# Altium integrated library AMCC PowerPC 405.IntLib: 46 symbols (part 3 of 12)
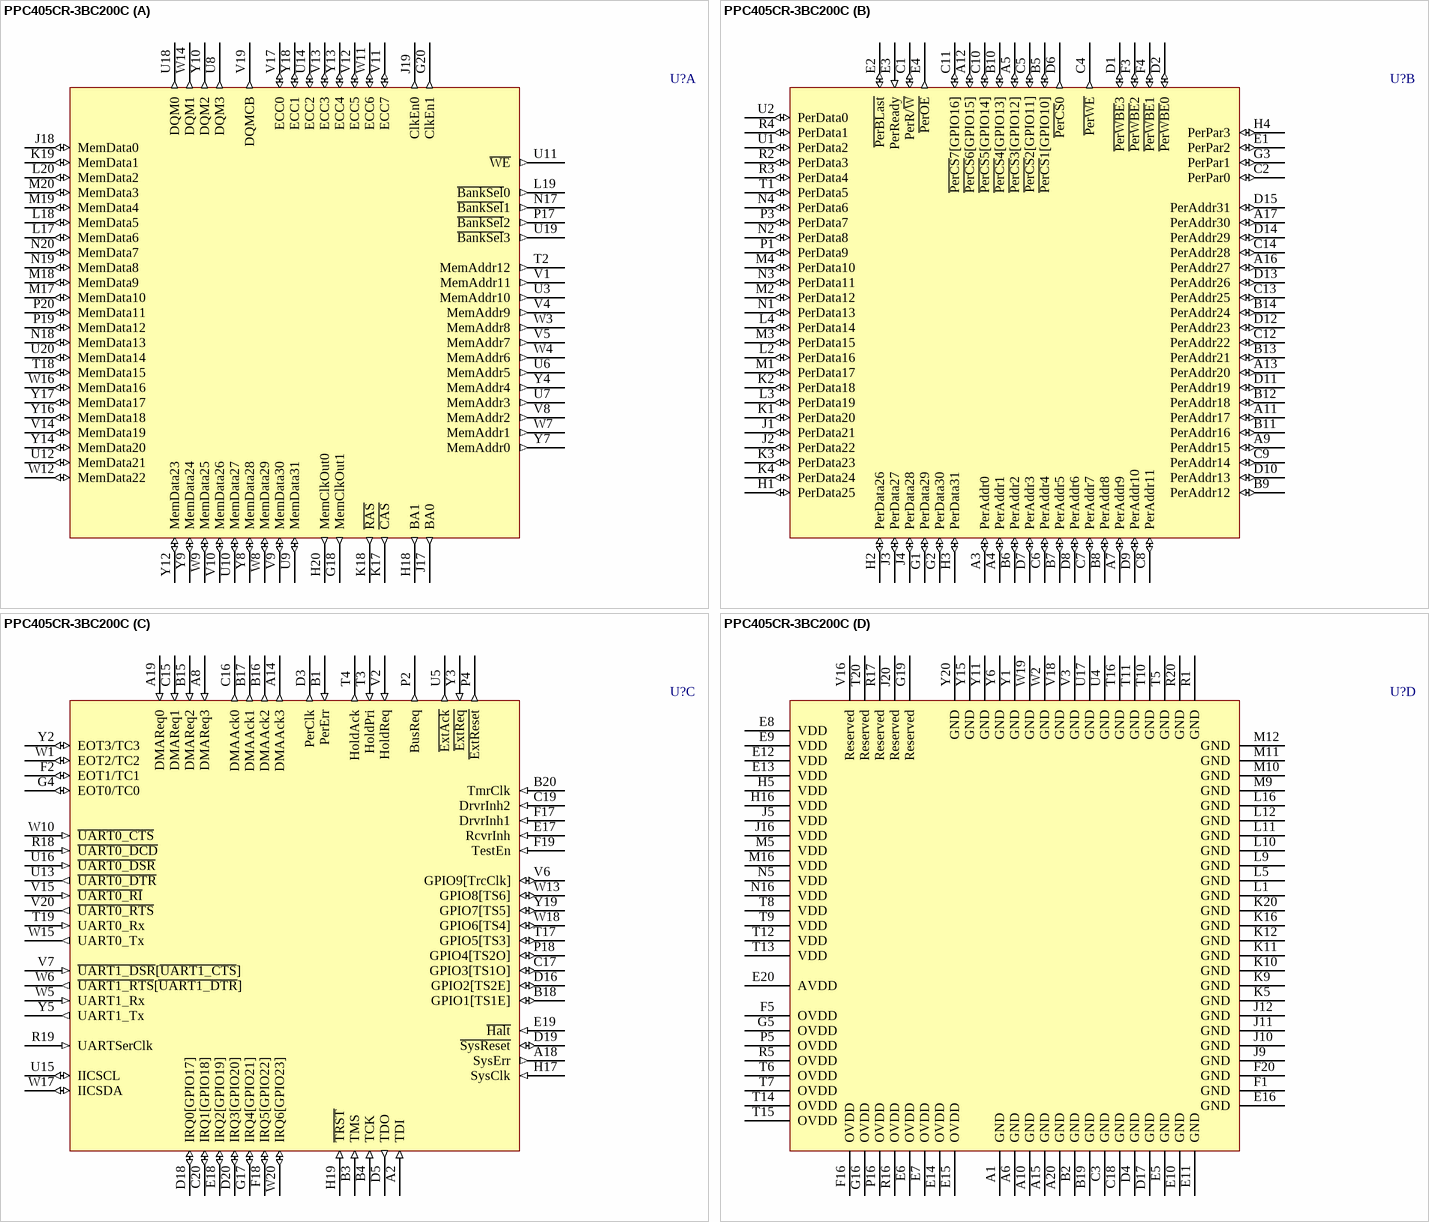
[diagram p120: symbol PPC405CR-3BC200C]

## PPC405CR-3BC200C
designator U?
PowerPC 405CR Embedded Processor, 200 MHz, 27mm, 316 Ball E-PBGA; Note: Pins J9-J12, K9-K12, L9-L12, and M9-M12 are also Thermal Balls.; Note: Connect G19 to GND. Do not connect signals, VDD or GND to any other Reserved pins.; Published: 6-Jun-2005; LatestRevisionDate: 13-Apr-2006; LatestRevisionNote: IPC-7351 Footprint Added.; DatasheetVersion: rev1.02, Jan-2005; PackageVersion: Jan-2005; PackageReference: E-PBGA316; Publisher: Altium Limited; PackageDescription: 316-Ball Enhanced Plastic Ball Grid Array; ComponentLink1Description: Manufacturer Link; ComponentLink1URL: http://www.amcc.com/; ComponentLink2Description: Datasheet; ComponentLink2URL: https://www.amcc.com/MyAMCC/retrieveDocument/PowerPC/405CR/PPC405CR_DS2007__v1_02.pdf
footprint E-PBGA316 (BGA, 316-Leads, Body 27x27mm, Pitch 1.27mm)
3D model PPC405CR-BGA316 (316-Ball Enhanced Plastic Ball Grid Array)
part A pins: G18 MemClkOut1 (out) "SDRAM Clock", G20 ClkEn1 (out) "SDRAM Clock Enable", H18 BA1 (out) "Bank Address", H20 MemClkOut0 (out) "SDRAM Clock", J17 BA0 (out) "Bank Address", J18 MemData0 (io) "Memory Data Bus (msb)", J19 ClkEn0 (out) "SDRAM Clock Enable", K17 ~{CAS} (out) "Column Address Strobe", K18 ~{RAS} (out) "Row Address Strobe", K19 MemData1 (io) "Memory Data Bus", L17 MemData6 (io) "Memory Data Bus", L18 MemData5 (io) "Memory Data Bus", L19 ~{BankSel}0 (out) "Select External SDRAM Bank", L20 MemData2 (io) "Memory Data Bus", M17 MemData10 (io) "Memory Data Bus", M18 MemData9 (io) "Memory Data Bus", M19 MemData4 (io) "Memory Data Bus", M20 MemData3 (io) "Memory Data Bus", N17 ~{BankSel}1 (out) "Select External SDRAM Bank", N18 MemData13 (io) "Memory Data Bus", N19 MemData8 (io) "Memory Data Bus", N20 MemData7 (io) "Memory Data Bus", P17 ~{BankSel}2 (out) "Select External SDRAM Bank", P19 MemData12 (io) "Memory Data Bus", P20 MemData11 (io) "Memory Data Bus", T2 MemAddr12 (out) "Memory Address Bus (msb)", T18 MemData15 (io) "Memory Data Bus", U3 MemAddr10 (out) "Memory Address Bus", U6 MemAddr5 (out) "Memory Address Bus", U7 MemAddr3 (out) "Memory Address Bus", U8 DQM3 (out) "DQM for byte lane 3 (MemData 24:31)", U9 MemData31 (io) "Memory Data Bus (lsb)", U10 MemData27 (io) "Memory Data Bus", U11 ~{WE} (out) "Write Enable", U12 MemData21 (io) "Memory Data Bus", U14 ECC2 (io) "Error Checking and Correction", U18 DQM0 (out) "DQM for byte lane 0 (MemData 0:7)", U19 ~{BankSel}3 (out) "Select External SDRAM Bank", U20 MemData14 (io) "Memory Data Bus", V1 MemAddr11 (out) "Memory Address Bus", V4 MemAddr9 (out) "Memory Address Bus", V5 MemAddr7 (out) "Memory Address Bus", V8 MemAddr2 (out) "Memory Address Bus", V9 MemData30 (io) "Memory Data Bus", V10 MemData26 (io) "Memory Data Bus", V11 ECC7 (io) "Error Checking and Correction", V12 ECC5 (io) "Error Checking and Correction", V13 ECC3 (io) "Error Checking and Correction", V14 MemData19 (io) "Memory Data Bus", V17 ECC0 (io) "Error Checking and Correction", V19 DQMCB (out) "DQM for ECC check bits", W3 MemAddr8 (out) "Memory Address Bus", W4 MemAddr6 (out) "Memory Address Bus", W7 MemAddr1 (out) "Memory Address Bus", W8 MemData29 (io) "Memory Data Bus", W9 MemData25 (io) "Memory Data Bus", W11 ECC6 (io) "Error Checking and Correction", W12 MemData22 (io) "Memory Data Bus", W14 DQM1 (out) "DQM for byte lane 1 (MemData 8:15)", W16 MemData16 (io) "Memory Data Bus", Y4 MemAddr4 (out) "Memory Address Bus", Y7 MemAddr0 (out) "Memory Address Bus (lsb)", Y8 MemData28 (io) "Memory Data Bus", Y9 MemData24 (io) "Memory Data Bus", Y10 DQM2 (out) "DQM for byte lane 2 (MemData 16:23)", Y12 MemData23 (io) "Memory Data Bus", Y13 ECC4 (io) "Error Checking and Correction", Y14 MemData20 (io) "Memory Data Bus", Y16 MemData18 (io) "Memory Data Bus", Y17 MemData17 (io) "Memory Data Bus", Y18 ECC1 (io) "Error Checking and Correction"
part B pins: A3 PerAddr0 (io) "Peripheral Address Bus (msb)", A4 PerAddr1 (io) "Peripheral Address Bus", A5 ~{PerCS}3[GPIO12] (io) "Peripheral Chip Select Bank 3 or General Purpose I/O", A7 PerAddr9 (io) "Peripheral Address Bus", A9 PerAddr15 (io) "Peripheral Address Bus", A11 PerAddr17 (io) "Peripheral Address Bus", A12 ~{PerCS}6[GPIO15] (io) "Peripheral Chip Select Bank 6 or General Purpose I/O", A13 PerAddr20 (io) "Peripheral Address Bus", A16 PerAddr27 (io) "Peripheral Address Bus", A17 PerAddr30 (io) "Peripheral Address Bus", B5 ~{PerCS}1[GPIO10] (io) "Peripheral Chip Select Bank 1 or General Purpose I/O", B6 PerAddr2 (io) "Peripheral Address Bus", B7 PerAddr5 (io) "Peripheral Address Bus", B8 PerAddr8 (io) "Peripheral Address Bus", B9 PerAddr12 (io) "Peripheral Address Bus", B10 ~{PerCS}4[GPIO13] (io) "Peripheral Chip Select Bank 4 or General Purpose I/O", B11 PerAddr16 (io) "Peripheral Address Bus", B12 PerAddr18 (io) "Peripheral Address Bus", B13 PerAddr21 (io) "Peripheral Address Bus", B14 PerAddr24 (io) "Peripheral Address Bus", C1 PerR/~{W} (io) "Peripheral/DMA Controller Read/Write", C2 PerPar0 (io) "Peripheral Byte Parity Signal", C4 ~{PerWE} (out) "Peripheral Write Enable", C5 ~{PerCS}2[GPIO11] (io) "Peripheral Chip Select Bank 2 or General Purpose I/O", C6 PerAddr4 (io) "Peripheral Address Bus", C7 PerAddr7 (io) "Peripheral Address Bus", C8 PerAddr11 (io) "Peripheral Address Bus", C9 PerAddr14 (io) "Peripheral Address Bus", C10 ~{PerCS}5[GPIO14] (io) "Peripheral Chip Select Bank 5 or General Purpose I/O", C11 ~{PerCS}7[GPIO16] (io) "Peripheral Chip Select Bank 7 or General Purpose I/O", C12 PerAddr22 (io) "Peripheral Address Bus", C13 PerAddr25 (io) "Peripheral Address Bus", C14 PerAddr28 (io) "Peripheral Address Bus", D1 ~{PerWBE}3 (io) "Peripheral Write Byte Enable", D2 ~{PerWBE}0 (io) "Peripheral Write Byte Enable", D6 ~{PerCS}0 (out) "Peripheral Chip Select Bank 0", D7 PerAddr3 (io) "Peripheral Address Bus", D8 PerAddr6 (io) "Peripheral Address Bus", D9 PerAddr10 (io) "Peripheral Address Bus", D10 PerAddr13 (io) "Peripheral Address Bus", D11 PerAddr19 (io) "Peripheral Address Bus", D12 PerAddr23 (io) "Peripheral Address Bus", D13 PerAddr26 (io) "Peripheral Address Bus", D14 PerAddr29 (io) "Peripheral Address Bus", D15 PerAddr31 (io) "Peripheral Address Bus", E1 PerPar2 (io) "Peripheral Byte Parity Signal", E2 ~{PerBLast} (io) ""Last transfer of a memory access" Indicator", E3 PerReady (in) "Peripheral Slave "ready to transfer data" Indicator", E4 ~{PerOE} (out) "Peripheral/DMA Controller Output Enable", F3 ~{PerWBE}2 (io) "Peripheral Write Byte Enable", F4 ~{PerWBE}1 (io) "Peripheral Write Byte Enable", G1 PerData29 (io) "Peripheral Data Bus", G2 PerData30 (io) "Peripheral Data Bus", G3 PerPar1 (io) "Peripheral Byte Parity Signal", H1 PerData25 (io) "Peripheral Data Bus", H2 PerData26 (io) "Peripheral Data Bus", H3 PerData31 (io) "Peripheral Data Bus", H4 PerPar3 (io) "Peripheral Byte Parity Signal", J1 PerData21 (io) "Peripheral Data Bus", J2 PerData22 (io) "Peripheral Data Bus", J3 PerData27 (io) "Peripheral Data Bus", J4 PerData28 (io) "Peripheral Data Bus", K1 PerData20 (io) "Peripheral Data Bus", K2 PerData18 (io) "Peripheral Data Bus", K3 PerData23 (io) "Peripheral Data Bus", K4 PerData24 (io) "Peripheral Data Bus", L2 PerData16 (io) "Peripheral Data Bus", L3 PerData19 (io) "Peripheral Data Bus", L4 PerData14 (io) "Peripheral Data Bus", M1 PerData17 (io) "Peripheral Data Bus", M2 PerData12 (io) "Peripheral Data Bus", M3 PerData15 (io) "Peripheral Data Bus", M4 PerData10 (io) "Peripheral Data Bus", N1 PerData13 (io) "Peripheral Data Bus", N2 PerData8 (io) "Peripheral Data Bus", N3 PerData11 (io) "Peripheral Data Bus", N4 PerData6 (io) "Peripheral Data Bus", P1 PerData9 (io) "Peripheral Data Bus", P3 PerData7 (io) "Peripheral Data Bus", R2 PerData3 (io) "Peripheral Data Bus", R3 PerData4 (io) "Peripheral Data Bus", R4 PerData1 (io) "Peripheral Data Bus", T1 PerData5 (io) "Peripheral Data Bus", U1 PerData2 (io) "Peripheral Data Bus", U2 PerData0 (io) "Peripheral Data Bus (msb)"
part C pins: A2 TDI (in) "Test data in", A8 DMAReq3 (in) "Used by slave peripherals to indicate transfer data readiness", A14 DMAAck3 (out) "Indicates data transfers have occurred", A18 SysErr (out) "Set to 1 when a Machine Check is generated", A19 DMAReq0 (in) "Used by slave peripherals to indicate transfer data readiness", B1 PerErr (in) "External slave peripheral error indicator", B3 TMS (in) "JTAG test mode select", B4 TCK (in) "JTAG test clock", B15 DMAReq2 (in) "Used by slave peripherals to indicate transfer data readiness", B16 DMAAck2 (out) "Indicates data transfers have occurred", B17 DMAAck1 (out) "Indicates data transfers have occurred", B18 GPIO1[TS1E] (io) "General Purpose I/O or Even Trace execution status", B20 TmrClk (in) "External clock input", C15 DMAReq1 (in) "Used by slave peripherals to indicate transfer data readiness", C16 DMAAck0 (out) "Indicates data transfers have occurred", C17 GPIO3[TS1O] (io) "General Purpose I/O or Odd Trace execution status", C19 DrvrInh2 (in) "Driver Inhibit 2", C20 IRQ1[GPIO18] (io) "Interrupt Request or General Purpose I/O", D3 PerClk (out) "Peripheral Clock", D5 TDO (out) "Test data out", D16 GPIO2[TS2E] (io) "General Purpose I/O or Even Trace execution status", D18 IRQ0[GPIO17] (io) "Interrupt Request or General Purpose I/O", D19 ~{SysReset} (io) "Main System Reset", D20 IRQ3[GPIO20] (io) "Interrupt Request or General Purpose I/O", E17 RcvrInh (in) "Receiver Inhibit", E18 IRQ2[GPIO19] (io) "Interrupt Request or General Purpose I/O", E19 ~{Halt} (in) "Halt from external debugger", F2 EOT1/TC1 (io) "End Of Transfer 1/Terminal Count 1", F17 DrvrInh1 (in) "Driver Inhibit 1", F18 IRQ5[GPIO22] (io) "Interrupt Request or General Purpose I/O", F19 TestEn (in) "Test Enable", G4 EOT0/TC0 (io) "End Of Transfer 0/Terminal Count 0", G17 IRQ4[GPIO21] (io) "Interrupt Request or General Purpose I/O", H17 SysClk (in) "Main System Clock input", H19 ~{TRST} (in) "JTAG reset", P2 BusReq (out) "For PPC405CR to regain control of peripheral interface from an external master", P4 ~{ExtReset} (out) "Peripheral Reset", P18 GPIO4[TS2O] (io) "General Purpose I/O or Odd Trace execution status", R18 ~{UART0_DCD} (in) "UART0 Data Carrier Detect", R19 UARTSerClk (in) "UART Serial clock", T3 HoldPri (in) "External Master Priority Indicator", T4 HoldAck (out) "Hold Acknowledge", T17 GPIO5[TS3] (io) "General Purpose I/O or Trace status", T19 UART0_Rx (in) "UART0 Receive (serial data in)", U5 ~{ExtAck} (out) "Data Transfer Cycle Indicator", U13 ~{UART0_DTR} (out) "UART0 Data Terminal Ready", U15 IICSCL (io) "IIC Serial Clock", U16 ~{UART0_DSR} (in) "UART0 Data Set Ready", V2 HoldReq (in) "Hold Request", V6 GPIO9[TrcClk] (io) "General Purpose I/O or Trace interface clock", V7 ~{UART1_DSR}[~{UART1_CTS}] (in) "UART1 Data Set Ready or UART1 Clear To Send", V15 ~{UART0_RI} (in) "UART0 Ring Indicator", V20 ~{UART0_RTS} (out) "UART0 Request To Send", W1 EOT2/TC2 (io) "End Of Transfer 2/Terminal Count 2", W5 UART1_Rx (in) "UART1 Receive (serial data in)", W6 ~{UART1_RTS}[~{UART1_DTR}] (out) "UART1 Request To Send or UART1 Data Terminal Ready", W10 ~{UART0_CTS} (in) "UART0 Clear To Send", W13 GPIO8[TS6] (io) "General Purpose I/O or Trace status", W15 UART0_Tx (out) "UART0 Transmit (serial data out)", W17 IICSDA (io) "IIC Serial Data", W18 GPIO6[TS4] (io) "General Purpose I/O or Trace status", W20 IRQ6[GPIO23] (io) "Interrupt Request or General Purpose I/O", Y2 EOT3/TC3 (io) "End Of Transfer 3/Terminal Count 3", Y3 ~{ExtReq} (in) "External Master "Data transfer preparedness" Indicator", Y5 UART1_Tx (out) "UART1 Transmit (serial data out)", Y19 GPIO7[TS5] (io) "General Purpose I/O or Trace status"
part D pins: A1 GND (power) "Ground", A6 GND (power) "Ground", A10 GND (power) "Ground", A15 GND (power) "Ground", A20 GND (power) "Ground", B2 GND (power) "Ground", B19 GND (power) "Ground", C3 GND (power) "Ground", C18 GND (power) "Ground", D4 GND (power) "Ground", D17 GND (power) "Ground", E5 GND (power) "Ground", E6 OVDD (power) "Output Driver Voltage - 3.3V", E7 OVDD (power) "Output Driver Voltage - 3.3V", E8 VDD (power) "Logic Voltage - 2.5V", E9 VDD (power) "Logic Voltage - 2.5V", E10 GND (power) "Ground", E11 GND (power) "Ground", E12 VDD (power) "Logic Voltage - 2.5V", E13 VDD (power) "Logic Voltage - 2.5V", E14 OVDD (power) "Output Driver Voltage - 3.3V", E15 OVDD (power) "Output Driver Voltage - 3.3V", E16 GND (power) "Ground", E20 AVDD (power) "Filtered voltage input for PLL circuits", F1 GND (power) "Ground", F5 OVDD (power) "Output Driver Voltage - 3.3V", F16 OVDD (power) "Output Driver Voltage - 3.3V", F20 GND (power) "Ground", G5 OVDD (power) "Output Driver Voltage - 3.3V", G16 OVDD (power) "Output Driver Voltage - 3.3V", G19 Reserved "Reserve pin. Connect to GND", H5 VDD (power) "Logic Voltage - 2.5V", H16 VDD (power) "Logic Voltage - 2.5V", J5 VDD (power) "Logic Voltage - 2.5V", J9 GND (power) "Ground. Also a thermal ball", J10 GND (power) "Ground. Also a thermal ball", J11 GND (power) "Ground. Also a thermal ball", J12 GND (power) "Ground. Also a thermal ball", J16 VDD (power) "Logic Voltage - 2.5V", J20 Reserved "Reserve pin. Not to be connected to signals, VDD or GND", K5 GND (power) "Ground", K9 GND (power) "Ground. Also a thermal ball", K10 GND (power) "Ground. Also a thermal ball", K11 GND (power) "Ground. Also a thermal ball", K12 GND (power) "Ground. Also a thermal ball", K16 GND (power) "Ground", K20 GND (power) "Ground", L1 GND (power) "Ground", L5 GND (power) "Ground", L9 GND (power) "Ground. Also a thermal ball", L10 GND (power) "Ground. Also a thermal ball", L11 GND (power) "Ground. Also a thermal ball", L12 GND (power) "Ground. Also a thermal ball", L16 GND (power) "Ground", M5 VDD (power) "Logic Voltage - 2.5V", M9 GND (power) "Ground. Also a thermal ball", M10 GND (power) "Ground. Also a thermal ball", M11 GND (power) "Ground. Also a thermal ball", M12 GND (power) "Ground. Also a thermal ball", M16 VDD (power) "Logic Voltage - 2.5V", N5 VDD (power) "Logic Voltage - 2.5V", N16 VDD (power) "Logic Voltage - 2.5V", P5 OVDD (power) "Output Driver Voltage - 3.3V", P16 OVDD (power) "Output Driver Voltage - 3.3V", R1 GND (power) "Ground", R5 OVDD (power) "Output Driver Voltage - 3.3V", R16 OVDD (power) "Output Driver Voltage - 3.3V", R17 Reserved "Reserve pin. Not to be connected to signals, VDD or GND", R20 GND (power) "Ground", T5 GND (power) "Ground", T6 OVDD (power) "Output Driver Voltage - 3.3V", T7 OVDD (power) "Output Driver Voltage - 3.3V", T8 VDD (power) "Logic Voltage - 2.5V", T9 VDD (power) "Logic Voltage - 2.5V", T10 GND (power) "Ground", T11 GND (power) "Ground", T12 VDD (power) "Logic Voltage - 2.5V", T13 VDD (power) "Logic Voltage - 2.5V", T14 OVDD (power) "Output Driver Voltage - 3.3V", T15 OVDD (power) "Output Driver Voltage - 3.3V", T16 GND (power) "Ground", T20 Reserved "Reserve pin. Not to be connected to signals, VDD or GND", U4 GND (power) "Ground", U17 GND (power) "Ground", V3 GND (power) "Ground", V16 Reserved "Reserve pin. Not to be connected to signals, VDD or GND", V18 GND (power) "Ground", W2 GND (power) "Ground", W19 GND (power) "Ground", Y1 GND (power) "Ground", Y6 GND (power) "Ground", Y11 GND (power) "Ground", Y15 GND (power) "Ground", Y20 GND (power) "Ground"

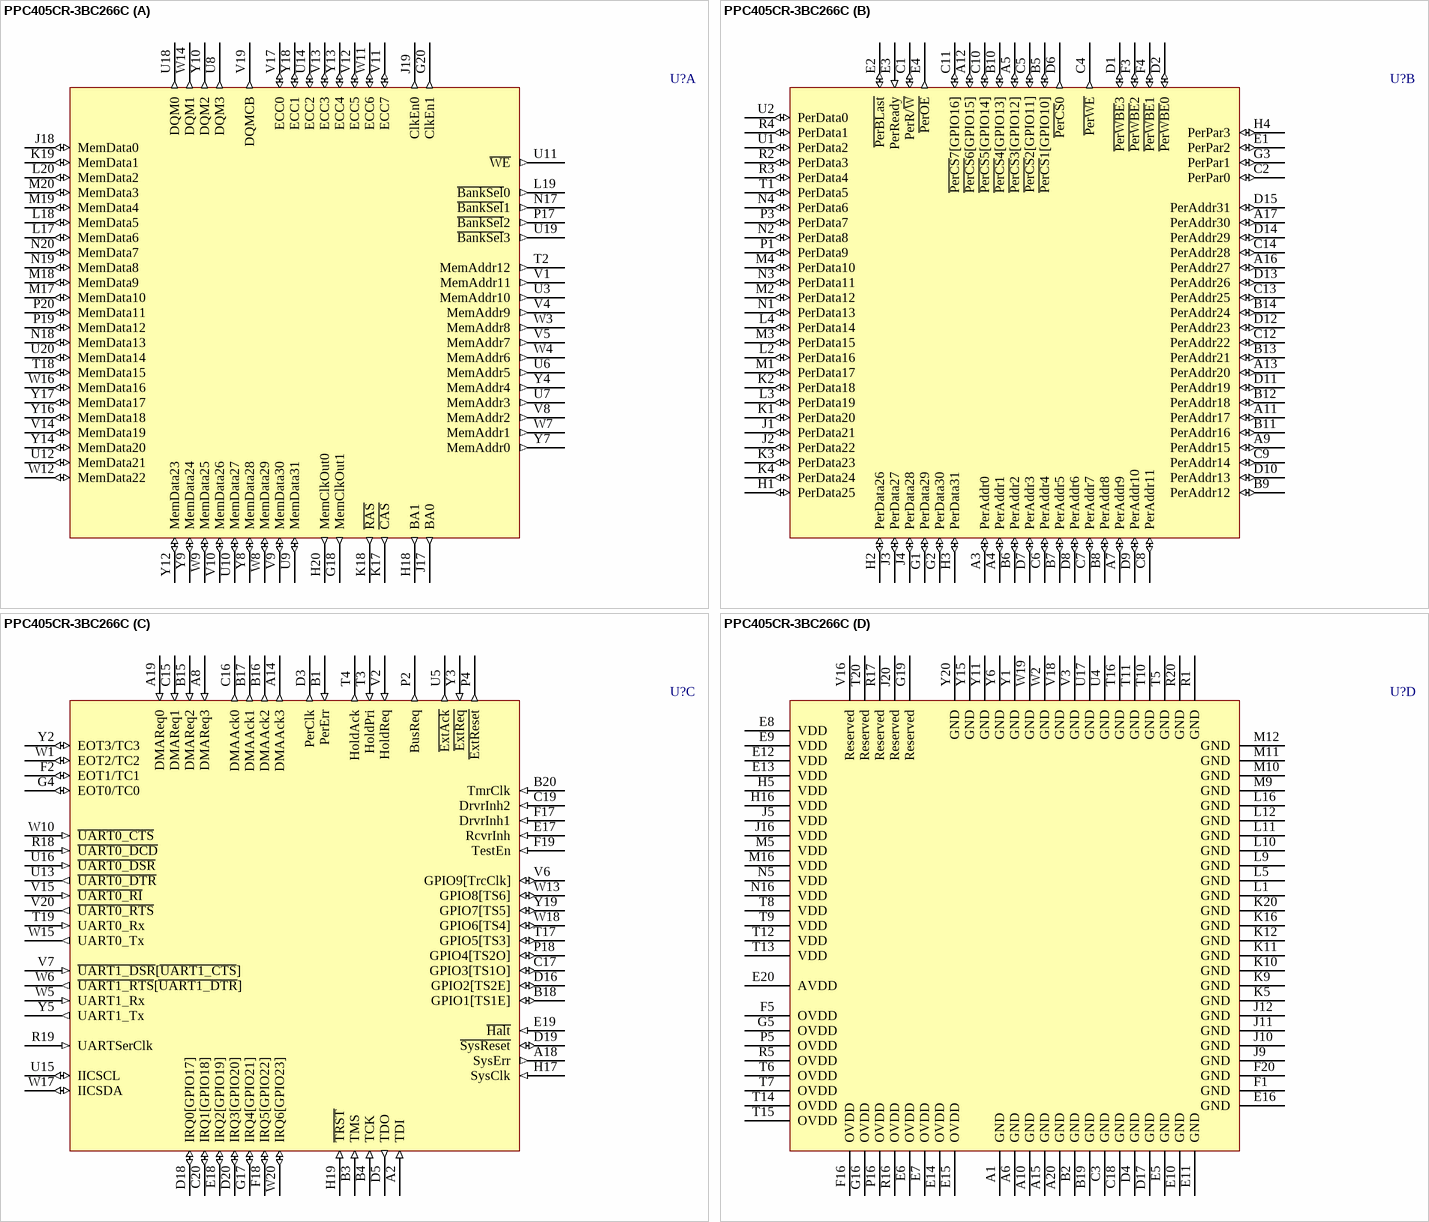
[diagram p13: symbol PPC405CR-3BC266C]

## PPC405CR-3BC266C
designator U?
PowerPC 405CR Embedded Processor, 266 MHz, 27mm, 316 Ball E-PBGA; Note: Pins J9-J12, K9-K12, L9-L12, and M9-M12 are also Thermal Balls.; Note: Connect G19 to GND. Do not connect signals, VDD or GND to any other Reserved pins.; Published: 6-Jun-2005; LatestRevisionDate: 13-Apr-2006; LatestRevisionNote: IPC-7351 Footprint Added.; DatasheetVersion: rev1.02, Jan-2005; PackageVersion: Jan-2005; PackageReference: E-PBGA316; Publisher: Altium Limited; PackageDescription: 316-Ball Enhanced Plastic Ball Grid Array; ComponentLink1Description: Manufacturer Link; ComponentLink1URL: http://www.amcc.com/; ComponentLink2Description: Datasheet; ComponentLink2URL: https://www.amcc.com/MyAMCC/retrieveDocument/PowerPC/405CR/PPC405CR_DS2007__v1_02.pdf
footprint E-PBGA316 (BGA, 316-Leads, Body 27x27mm, Pitch 1.27mm)
3D model PPC405CR-BGA316 (316-Ball Enhanced Plastic Ball Grid Array)
part A pins: G18 MemClkOut1 (out) "SDRAM Clock", G20 ClkEn1 (out) "SDRAM Clock Enable", H18 BA1 (out) "Bank Address", H20 MemClkOut0 (out) "SDRAM Clock", J17 BA0 (out) "Bank Address", J18 MemData0 (io) "Memory Data Bus (msb)", J19 ClkEn0 (out) "SDRAM Clock Enable", K17 ~{CAS} (out) "Column Address Strobe", K18 ~{RAS} (out) "Row Address Strobe", K19 MemData1 (io) "Memory Data Bus", L17 MemData6 (io) "Memory Data Bus", L18 MemData5 (io) "Memory Data Bus", L19 ~{BankSel}0 (out) "Select External SDRAM Bank", L20 MemData2 (io) "Memory Data Bus", M17 MemData10 (io) "Memory Data Bus", M18 MemData9 (io) "Memory Data Bus", M19 MemData4 (io) "Memory Data Bus", M20 MemData3 (io) "Memory Data Bus", N17 ~{BankSel}1 (out) "Select External SDRAM Bank", N18 MemData13 (io) "Memory Data Bus", N19 MemData8 (io) "Memory Data Bus", N20 MemData7 (io) "Memory Data Bus", P17 ~{BankSel}2 (out) "Select External SDRAM Bank", P19 MemData12 (io) "Memory Data Bus", P20 MemData11 (io) "Memory Data Bus", T2 MemAddr12 (out) "Memory Address Bus (msb)", T18 MemData15 (io) "Memory Data Bus", U3 MemAddr10 (out) "Memory Address Bus", U6 MemAddr5 (out) "Memory Address Bus", U7 MemAddr3 (out) "Memory Address Bus", U8 DQM3 (out) "DQM for byte lane 3 (MemData 24:31)", U9 MemData31 (io) "Memory Data Bus (lsb)", U10 MemData27 (io) "Memory Data Bus", U11 ~{WE} (out) "Write Enable", U12 MemData21 (io) "Memory Data Bus", U14 ECC2 (io) "Error Checking and Correction", U18 DQM0 (out) "DQM for byte lane 0 (MemData 0:7)", U19 ~{BankSel}3 (out) "Select External SDRAM Bank", U20 MemData14 (io) "Memory Data Bus", V1 MemAddr11 (out) "Memory Address Bus", V4 MemAddr9 (out) "Memory Address Bus", V5 MemAddr7 (out) "Memory Address Bus", V8 MemAddr2 (out) "Memory Address Bus", V9 MemData30 (io) "Memory Data Bus", V10 MemData26 (io) "Memory Data Bus", V11 ECC7 (io) "Error Checking and Correction", V12 ECC5 (io) "Error Checking and Correction", V13 ECC3 (io) "Error Checking and Correction", V14 MemData19 (io) "Memory Data Bus", V17 ECC0 (io) "Error Checking and Correction", V19 DQMCB (out) "DQM for ECC check bits", W3 MemAddr8 (out) "Memory Address Bus", W4 MemAddr6 (out) "Memory Address Bus", W7 MemAddr1 (out) "Memory Address Bus", W8 MemData29 (io) "Memory Data Bus", W9 MemData25 (io) "Memory Data Bus", W11 ECC6 (io) "Error Checking and Correction", W12 MemData22 (io) "Memory Data Bus", W14 DQM1 (out) "DQM for byte lane 1 (MemData 8:15)", W16 MemData16 (io) "Memory Data Bus", Y4 MemAddr4 (out) "Memory Address Bus", Y7 MemAddr0 (out) "Memory Address Bus (lsb)", Y8 MemData28 (io) "Memory Data Bus", Y9 MemData24 (io) "Memory Data Bus", Y10 DQM2 (out) "DQM for byte lane 2 (MemData 16:23)", Y12 MemData23 (io) "Memory Data Bus", Y13 ECC4 (io) "Error Checking and Correction", Y14 MemData20 (io) "Memory Data Bus", Y16 MemData18 (io) "Memory Data Bus", Y17 MemData17 (io) "Memory Data Bus", Y18 ECC1 (io) "Error Checking and Correction"
part B pins: A3 PerAddr0 (io) "Peripheral Address Bus (msb)", A4 PerAddr1 (io) "Peripheral Address Bus", A5 ~{PerCS}3[GPIO12] (io) "Peripheral Chip Select Bank 3 or General Purpose I/O", A7 PerAddr9 (io) "Peripheral Address Bus", A9 PerAddr15 (io) "Peripheral Address Bus", A11 PerAddr17 (io) "Peripheral Address Bus", A12 ~{PerCS}6[GPIO15] (io) "Peripheral Chip Select Bank 6 or General Purpose I/O", A13 PerAddr20 (io) "Peripheral Address Bus", A16 PerAddr27 (io) "Peripheral Address Bus", A17 PerAddr30 (io) "Peripheral Address Bus", B5 ~{PerCS}1[GPIO10] (io) "Peripheral Chip Select Bank 1 or General Purpose I/O", B6 PerAddr2 (io) "Peripheral Address Bus", B7 PerAddr5 (io) "Peripheral Address Bus", B8 PerAddr8 (io) "Peripheral Address Bus", B9 PerAddr12 (io) "Peripheral Address Bus", B10 ~{PerCS}4[GPIO13] (io) "Peripheral Chip Select Bank 4 or General Purpose I/O", B11 PerAddr16 (io) "Peripheral Address Bus", B12 PerAddr18 (io) "Peripheral Address Bus", B13 PerAddr21 (io) "Peripheral Address Bus", B14 PerAddr24 (io) "Peripheral Address Bus", C1 PerR/~{W} (io) "Peripheral/DMA Controller Read/Write", C2 PerPar0 (io) "Peripheral Byte Parity Signal", C4 ~{PerWE} (out) "Peripheral Write Enable", C5 ~{PerCS}2[GPIO11] (io) "Peripheral Chip Select Bank 2 or General Purpose I/O", C6 PerAddr4 (io) "Peripheral Address Bus", C7 PerAddr7 (io) "Peripheral Address Bus", C8 PerAddr11 (io) "Peripheral Address Bus", C9 PerAddr14 (io) "Peripheral Address Bus", C10 ~{PerCS}5[GPIO14] (io) "Peripheral Chip Select Bank 5 or General Purpose I/O", C11 ~{PerCS}7[GPIO16] (io) "Peripheral Chip Select Bank 7 or General Purpose I/O", C12 PerAddr22 (io) "Peripheral Address Bus", C13 PerAddr25 (io) "Peripheral Address Bus", C14 PerAddr28 (io) "Peripheral Address Bus", D1 ~{PerWBE}3 (io) "Peripheral Write Byte Enable", D2 ~{PerWBE}0 (io) "Peripheral Write Byte Enable", D6 ~{PerCS}0 (out) "Peripheral Chip Select Bank 0", D7 PerAddr3 (io) "Peripheral Address Bus", D8 PerAddr6 (io) "Peripheral Address Bus", D9 PerAddr10 (io) "Peripheral Address Bus", D10 PerAddr13 (io) "Peripheral Address Bus", D11 PerAddr19 (io) "Peripheral Address Bus", D12 PerAddr23 (io) "Peripheral Address Bus", D13 PerAddr26 (io) "Peripheral Address Bus", D14 PerAddr29 (io) "Peripheral Address Bus", D15 PerAddr31 (io) "Peripheral Address Bus", E1 PerPar2 (io) "Peripheral Byte Parity Signal", E2 ~{PerBLast} (io) ""Last transfer of a memory access" Indicator", E3 PerReady (in) "Peripheral Slave "ready to transfer data" Indicator", E4 ~{PerOE} (out) "Peripheral/DMA Controller Output Enable", F3 ~{PerWBE}2 (io) "Peripheral Write Byte Enable", F4 ~{PerWBE}1 (io) "Peripheral Write Byte Enable", G1 PerData29 (io) "Peripheral Data Bus", G2 PerData30 (io) "Peripheral Data Bus", G3 PerPar1 (io) "Peripheral Byte Parity Signal", H1 PerData25 (io) "Peripheral Data Bus", H2 PerData26 (io) "Peripheral Data Bus", H3 PerData31 (io) "Peripheral Data Bus", H4 PerPar3 (io) "Peripheral Byte Parity Signal", J1 PerData21 (io) "Peripheral Data Bus", J2 PerData22 (io) "Peripheral Data Bus", J3 PerData27 (io) "Peripheral Data Bus", J4 PerData28 (io) "Peripheral Data Bus", K1 PerData20 (io) "Peripheral Data Bus", K2 PerData18 (io) "Peripheral Data Bus", K3 PerData23 (io) "Peripheral Data Bus", K4 PerData24 (io) "Peripheral Data Bus", L2 PerData16 (io) "Peripheral Data Bus", L3 PerData19 (io) "Peripheral Data Bus", L4 PerData14 (io) "Peripheral Data Bus", M1 PerData17 (io) "Peripheral Data Bus", M2 PerData12 (io) "Peripheral Data Bus", M3 PerData15 (io) "Peripheral Data Bus", M4 PerData10 (io) "Peripheral Data Bus", N1 PerData13 (io) "Peripheral Data Bus", N2 PerData8 (io) "Peripheral Data Bus", N3 PerData11 (io) "Peripheral Data Bus", N4 PerData6 (io) "Peripheral Data Bus", P1 PerData9 (io) "Peripheral Data Bus", P3 PerData7 (io) "Peripheral Data Bus", R2 PerData3 (io) "Peripheral Data Bus", R3 PerData4 (io) "Peripheral Data Bus", R4 PerData1 (io) "Peripheral Data Bus", T1 PerData5 (io) "Peripheral Data Bus", U1 PerData2 (io) "Peripheral Data Bus", U2 PerData0 (io) "Peripheral Data Bus (msb)"
part C pins: A2 TDI (in) "Test data in", A8 DMAReq3 (in) "Used by slave peripherals to indicate transfer data readiness", A14 DMAAck3 (out) "Indicates data transfers have occurred", A18 SysErr (out) "Set to 1 when a Machine Check is generated", A19 DMAReq0 (in) "Used by slave peripherals to indicate transfer data readiness", B1 PerErr (in) "External slave peripheral error indicator", B3 TMS (in) "JTAG test mode select", B4 TCK (in) "JTAG test clock", B15 DMAReq2 (in) "Used by slave peripherals to indicate transfer data readiness", B16 DMAAck2 (out) "Indicates data transfers have occurred", B17 DMAAck1 (out) "Indicates data transfers have occurred", B18 GPIO1[TS1E] (io) "General Purpose I/O or Even Trace execution status", B20 TmrClk (in) "External clock input", C15 DMAReq1 (in) "Used by slave peripherals to indicate transfer data readiness", C16 DMAAck0 (out) "Indicates data transfers have occurred", C17 GPIO3[TS1O] (io) "General Purpose I/O or Odd Trace execution status", C19 DrvrInh2 (in) "Driver Inhibit 2", C20 IRQ1[GPIO18] (io) "Interrupt Request or General Purpose I/O", D3 PerClk (out) "Peripheral Clock", D5 TDO (out) "Test data out", D16 GPIO2[TS2E] (io) "General Purpose I/O or Even Trace execution status", D18 IRQ0[GPIO17] (io) "Interrupt Request or General Purpose I/O", D19 ~{SysReset} (io) "Main System Reset", D20 IRQ3[GPIO20] (io) "Interrupt Request or General Purpose I/O", E17 RcvrInh (in) "Receiver Inhibit", E18 IRQ2[GPIO19] (io) "Interrupt Request or General Purpose I/O", E19 ~{Halt} (in) "Halt from external debugger", F2 EOT1/TC1 (io) "End Of Transfer 1/Terminal Count 1", F17 DrvrInh1 (in) "Driver Inhibit 1", F18 IRQ5[GPIO22] (io) "Interrupt Request or General Purpose I/O", F19 TestEn (in) "Test Enable", G4 EOT0/TC0 (io) "End Of Transfer 0/Terminal Count 0", G17 IRQ4[GPIO21] (io) "Interrupt Request or General Purpose I/O", H17 SysClk (in) "Main System Clock input", H19 ~{TRST} (in) "JTAG reset", P2 BusReq (out) "For PPC405CR to regain control of peripheral interface from an external master", P4 ~{ExtReset} (out) "Peripheral Reset", P18 GPIO4[TS2O] (io) "General Purpose I/O or Odd Trace execution status", R18 ~{UART0_DCD} (in) "UART0 Data Carrier Detect", R19 UARTSerClk (in) "UART Serial clock", T3 HoldPri (in) "External Master Priority Indicator", T4 HoldAck (out) "Hold Acknowledge", T17 GPIO5[TS3] (io) "General Purpose I/O or Trace status", T19 UART0_Rx (in) "UART0 Receive (serial data in)", U5 ~{ExtAck} (out) "Data Transfer Cycle Indicator", U13 ~{UART0_DTR} (out) "UART0 Data Terminal Ready", U15 IICSCL (io) "IIC Serial Clock", U16 ~{UART0_DSR} (in) "UART0 Data Set Ready", V2 HoldReq (in) "Hold Request", V6 GPIO9[TrcClk] (io) "General Purpose I/O or Trace interface clock", V7 ~{UART1_DSR}[~{UART1_CTS}] (in) "UART1 Data Set Ready or UART1 Clear To Send", V15 ~{UART0_RI} (in) "UART0 Ring Indicator", V20 ~{UART0_RTS} (out) "UART0 Request To Send", W1 EOT2/TC2 (io) "End Of Transfer 2/Terminal Count 2", W5 UART1_Rx (in) "UART1 Receive (serial data in)", W6 ~{UART1_RTS}[~{UART1_DTR}] (out) "UART1 Request To Send or UART1 Data Terminal Ready", W10 ~{UART0_CTS} (in) "UART0 Clear To Send", W13 GPIO8[TS6] (io) "General Purpose I/O or Trace status", W15 UART0_Tx (out) "UART0 Transmit (serial data out)", W17 IICSDA (io) "IIC Serial Data", W18 GPIO6[TS4] (io) "General Purpose I/O or Trace status", W20 IRQ6[GPIO23] (io) "Interrupt Request or General Purpose I/O", Y2 EOT3/TC3 (io) "End Of Transfer 3/Terminal Count 3", Y3 ~{ExtReq} (in) "External Master "Data transfer preparedness" Indicator", Y5 UART1_Tx (out) "UART1 Transmit (serial data out)", Y19 GPIO7[TS5] (io) "General Purpose I/O or Trace status"
part D pins: A1 GND (power) "Ground", A6 GND (power) "Ground", A10 GND (power) "Ground", A15 GND (power) "Ground", A20 GND (power) "Ground", B2 GND (power) "Ground", B19 GND (power) "Ground", C3 GND (power) "Ground", C18 GND (power) "Ground", D4 GND (power) "Ground", D17 GND (power) "Ground", E5 GND (power) "Ground", E6 OVDD (power) "Output Driver Voltage - 3.3V", E7 OVDD (power) "Output Driver Voltage - 3.3V", E8 VDD (power) "Logic Voltage - 2.5V", E9 VDD (power) "Logic Voltage - 2.5V", E10 GND (power) "Ground", E11 GND (power) "Ground", E12 VDD (power) "Logic Voltage - 2.5V", E13 VDD (power) "Logic Voltage - 2.5V", E14 OVDD (power) "Output Driver Voltage - 3.3V", E15 OVDD (power) "Output Driver Voltage - 3.3V", E16 GND (power) "Ground", E20 AVDD (power) "Filtered voltage input for PLL circuits", F1 GND (power) "Ground", F5 OVDD (power) "Output Driver Voltage - 3.3V", F16 OVDD (power) "Output Driver Voltage - 3.3V", F20 GND (power) "Ground", G5 OVDD (power) "Output Driver Voltage - 3.3V", G16 OVDD (power) "Output Driver Voltage - 3.3V", G19 Reserved "Reserve pin. Connect to GND", H5 VDD (power) "Logic Voltage - 2.5V", H16 VDD (power) "Logic Voltage - 2.5V", J5 VDD (power) "Logic Voltage - 2.5V", J9 GND (power) "Ground. Also a thermal ball", J10 GND (power) "Ground. Also a thermal ball", J11 GND (power) "Ground. Also a thermal ball", J12 GND (power) "Ground. Also a thermal ball", J16 VDD (power) "Logic Voltage - 2.5V", J20 Reserved "Reserve pin. Not to be connected to signals, VDD or GND", K5 GND (power) "Ground", K9 GND (power) "Ground. Also a thermal ball", K10 GND (power) "Ground. Also a thermal ball", K11 GND (power) "Ground. Also a thermal ball", K12 GND (power) "Ground. Also a thermal ball", K16 GND (power) "Ground", K20 GND (power) "Ground", L1 GND (power) "Ground", L5 GND (power) "Ground", L9 GND (power) "Ground. Also a thermal ball", L10 GND (power) "Ground. Also a thermal ball", L11 GND (power) "Ground. Also a thermal ball", L12 GND (power) "Ground. Also a thermal ball", L16 GND (power) "Ground", M5 VDD (power) "Logic Voltage - 2.5V", M9 GND (power) "Ground. Also a thermal ball", M10 GND (power) "Ground. Also a thermal ball", M11 GND (power) "Ground. Also a thermal ball", M12 GND (power) "Ground. Also a thermal ball", M16 VDD (power) "Logic Voltage - 2.5V", N5 VDD (power) "Logic Voltage - 2.5V", N16 VDD (power) "Logic Voltage - 2.5V", P5 OVDD (power) "Output Driver Voltage - 3.3V", P16 OVDD (power) "Output Driver Voltage - 3.3V", R1 GND (power) "Ground", R5 OVDD (power) "Output Driver Voltage - 3.3V", R16 OVDD (power) "Output Driver Voltage - 3.3V", R17 Reserved "Reserve pin. Not to be connected to signals, VDD or GND", R20 GND (power) "Ground", T5 GND (power) "Ground", T6 OVDD (power) "Output Driver Voltage - 3.3V", T7 OVDD (power) "Output Driver Voltage - 3.3V", T8 VDD (power) "Logic Voltage - 2.5V", T9 VDD (power) "Logic Voltage - 2.5V", T10 GND (power) "Ground", T11 GND (power) "Ground", T12 VDD (power) "Logic Voltage - 2.5V", T13 VDD (power) "Logic Voltage - 2.5V", T14 OVDD (power) "Output Driver Voltage - 3.3V", T15 OVDD (power) "Output Driver Voltage - 3.3V", T16 GND (power) "Ground", T20 Reserved "Reserve pin. Not to be connected to signals, VDD or GND", U4 GND (power) "Ground", U17 GND (power) "Ground", V3 GND (power) "Ground", V16 Reserved "Reserve pin. Not to be connected to signals, VDD or GND", V18 GND (power) "Ground", W2 GND (power) "Ground", W19 GND (power) "Ground", Y1 GND (power) "Ground", Y6 GND (power) "Ground", Y11 GND (power) "Ground", Y15 GND (power) "Ground", Y20 GND (power) "Ground"

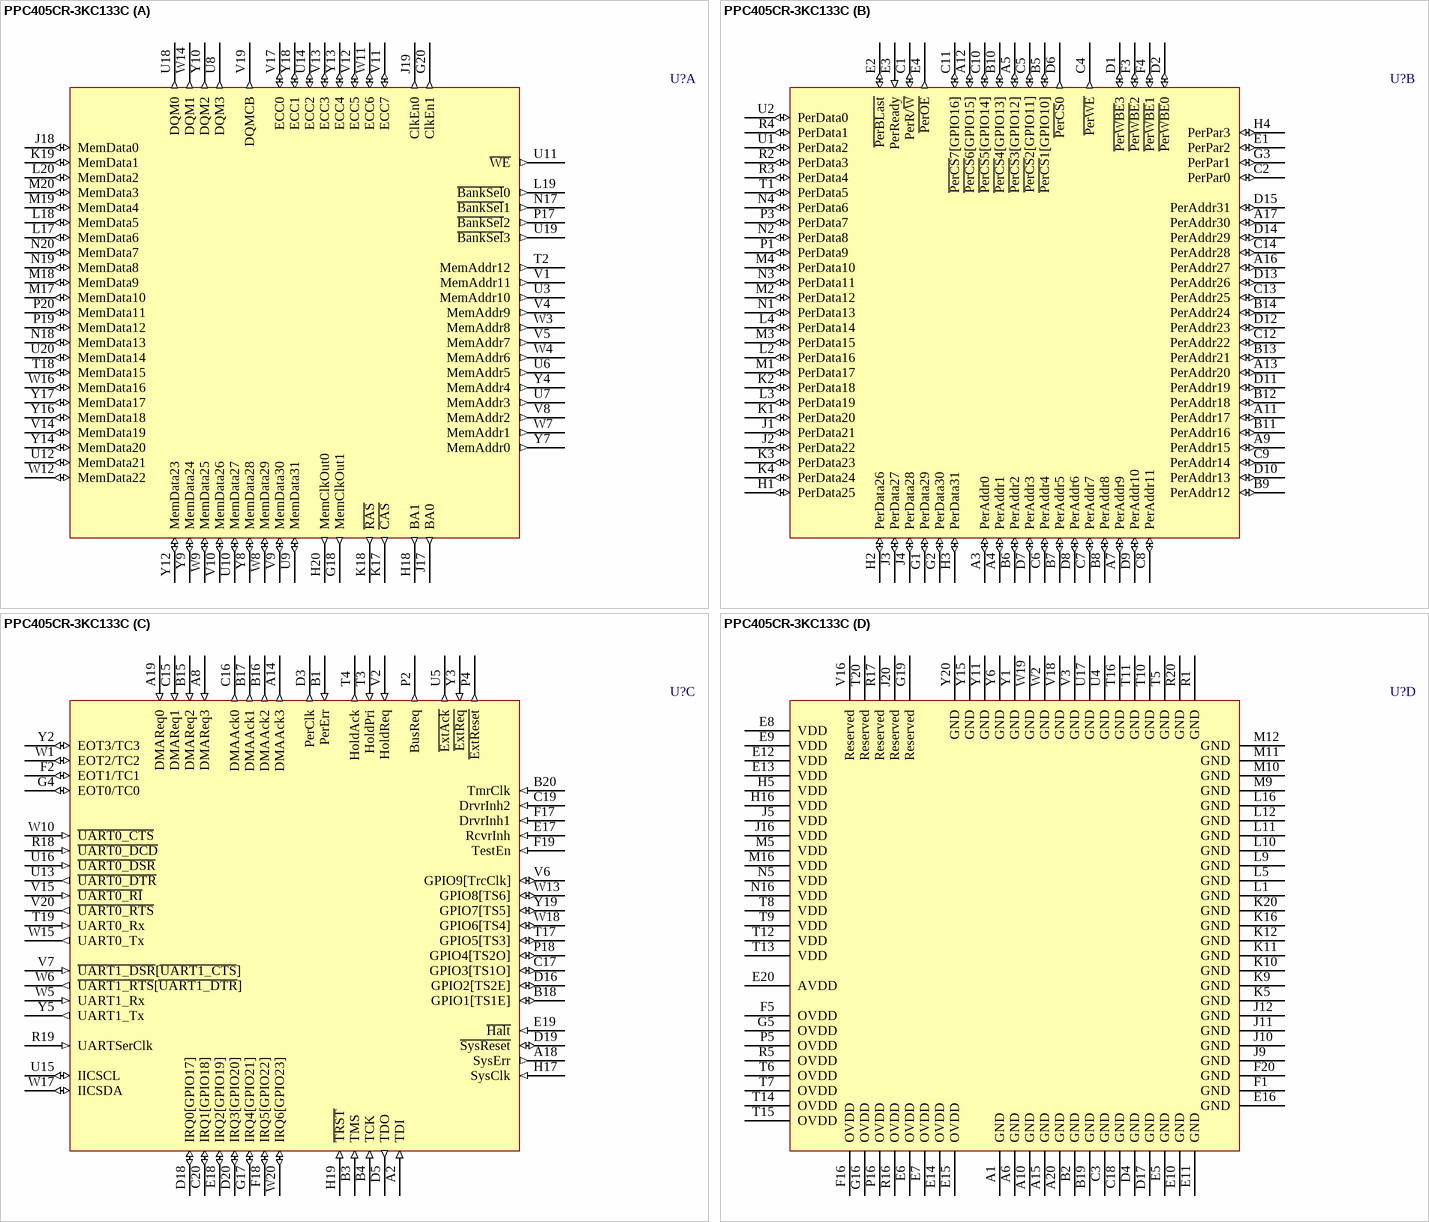
[diagram p14: symbol PPC405CR-3KC133C]

## PPC405CR-3KC133C
designator U?
PowerPC 405CR Embedded Processor, 133 MHz, 27mm, 316 Ball E-PBGA, Pb-Free; Note: Pins J9-J12, K9-K12, L9-L12, and M9-M12 are also Thermal Balls.; Note: Connect G19 to GND. Do not connect signals, VDD or GND to any other Reserved pins.; Published: 6-Jun-2005; LatestRevisionDate: 13-Apr-2006; LatestRevisionNote: IPC-7351 Footprint Added.; DatasheetVersion: rev1.02, Jan-2005; PackageVersion: Jan-2005; PackageReference: E-PBGA316; Publisher: Altium Limited; PackageDescription: 316-Ball Enhanced Plastic Ball Grid Array; ComponentLink1Description: Manufacturer Link; ComponentLink1URL: http://www.amcc.com/; ComponentLink2Description: Datasheet; ComponentLink2URL: https://www.amcc.com/MyAMCC/retrieveDocument/PowerPC/405CR/PPC405CR_DS2007__v1_02.pdf
footprint E-PBGA316 (BGA, 316-Leads, Body 27x27mm, Pitch 1.27mm)
3D model PPC405CR-BGA316 (316-Ball Enhanced Plastic Ball Grid Array)
part A pins: G18 MemClkOut1 (out) "SDRAM Clock", G20 ClkEn1 (out) "SDRAM Clock Enable", H18 BA1 (out) "Bank Address", H20 MemClkOut0 (out) "SDRAM Clock", J17 BA0 (out) "Bank Address", J18 MemData0 (io) "Memory Data Bus (msb)", J19 ClkEn0 (out) "SDRAM Clock Enable", K17 ~{CAS} (out) "Column Address Strobe", K18 ~{RAS} (out) "Row Address Strobe", K19 MemData1 (io) "Memory Data Bus", L17 MemData6 (io) "Memory Data Bus", L18 MemData5 (io) "Memory Data Bus", L19 ~{BankSel}0 (out) "Select External SDRAM Bank", L20 MemData2 (io) "Memory Data Bus", M17 MemData10 (io) "Memory Data Bus", M18 MemData9 (io) "Memory Data Bus", M19 MemData4 (io) "Memory Data Bus", M20 MemData3 (io) "Memory Data Bus", N17 ~{BankSel}1 (out) "Select External SDRAM Bank", N18 MemData13 (io) "Memory Data Bus", N19 MemData8 (io) "Memory Data Bus", N20 MemData7 (io) "Memory Data Bus", P17 ~{BankSel}2 (out) "Select External SDRAM Bank", P19 MemData12 (io) "Memory Data Bus", P20 MemData11 (io) "Memory Data Bus", T2 MemAddr12 (out) "Memory Address Bus (msb)", T18 MemData15 (io) "Memory Data Bus", U3 MemAddr10 (out) "Memory Address Bus", U6 MemAddr5 (out) "Memory Address Bus", U7 MemAddr3 (out) "Memory Address Bus", U8 DQM3 (out) "DQM for byte lane 3 (MemData 24:31)", U9 MemData31 (io) "Memory Data Bus (lsb)", U10 MemData27 (io) "Memory Data Bus", U11 ~{WE} (out) "Write Enable", U12 MemData21 (io) "Memory Data Bus", U14 ECC2 (io) "Error Checking and Correction", U18 DQM0 (out) "DQM for byte lane 0 (MemData 0:7)", U19 ~{BankSel}3 (out) "Select External SDRAM Bank", U20 MemData14 (io) "Memory Data Bus", V1 MemAddr11 (out) "Memory Address Bus", V4 MemAddr9 (out) "Memory Address Bus", V5 MemAddr7 (out) "Memory Address Bus", V8 MemAddr2 (out) "Memory Address Bus", V9 MemData30 (io) "Memory Data Bus", V10 MemData26 (io) "Memory Data Bus", V11 ECC7 (io) "Error Checking and Correction", V12 ECC5 (io) "Error Checking and Correction", V13 ECC3 (io) "Error Checking and Correction", V14 MemData19 (io) "Memory Data Bus", V17 ECC0 (io) "Error Checking and Correction", V19 DQMCB (out) "DQM for ECC check bits", W3 MemAddr8 (out) "Memory Address Bus", W4 MemAddr6 (out) "Memory Address Bus", W7 MemAddr1 (out) "Memory Address Bus", W8 MemData29 (io) "Memory Data Bus", W9 MemData25 (io) "Memory Data Bus", W11 ECC6 (io) "Error Checking and Correction", W12 MemData22 (io) "Memory Data Bus", W14 DQM1 (out) "DQM for byte lane 1 (MemData 8:15)", W16 MemData16 (io) "Memory Data Bus", Y4 MemAddr4 (out) "Memory Address Bus", Y7 MemAddr0 (out) "Memory Address Bus (lsb)", Y8 MemData28 (io) "Memory Data Bus", Y9 MemData24 (io) "Memory Data Bus", Y10 DQM2 (out) "DQM for byte lane 2 (MemData 16:23)", Y12 MemData23 (io) "Memory Data Bus", Y13 ECC4 (io) "Error Checking and Correction", Y14 MemData20 (io) "Memory Data Bus", Y16 MemData18 (io) "Memory Data Bus", Y17 MemData17 (io) "Memory Data Bus", Y18 ECC1 (io) "Error Checking and Correction"
part B pins: A3 PerAddr0 (io) "Peripheral Address Bus (msb)", A4 PerAddr1 (io) "Peripheral Address Bus", A5 ~{PerCS}3[GPIO12] (io) "Peripheral Chip Select Bank 3 or General Purpose I/O", A7 PerAddr9 (io) "Peripheral Address Bus", A9 PerAddr15 (io) "Peripheral Address Bus", A11 PerAddr17 (io) "Peripheral Address Bus", A12 ~{PerCS}6[GPIO15] (io) "Peripheral Chip Select Bank 6 or General Purpose I/O", A13 PerAddr20 (io) "Peripheral Address Bus", A16 PerAddr27 (io) "Peripheral Address Bus", A17 PerAddr30 (io) "Peripheral Address Bus", B5 ~{PerCS}1[GPIO10] (io) "Peripheral Chip Select Bank 1 or General Purpose I/O", B6 PerAddr2 (io) "Peripheral Address Bus", B7 PerAddr5 (io) "Peripheral Address Bus", B8 PerAddr8 (io) "Peripheral Address Bus", B9 PerAddr12 (io) "Peripheral Address Bus", B10 ~{PerCS}4[GPIO13] (io) "Peripheral Chip Select Bank 4 or General Purpose I/O", B11 PerAddr16 (io) "Peripheral Address Bus", B12 PerAddr18 (io) "Peripheral Address Bus", B13 PerAddr21 (io) "Peripheral Address Bus", B14 PerAddr24 (io) "Peripheral Address Bus", C1 PerR/~{W} (io) "Peripheral/DMA Controller Read/Write", C2 PerPar0 (io) "Peripheral Byte Parity Signal", C4 ~{PerWE} (out) "Peripheral Write Enable", C5 ~{PerCS}2[GPIO11] (io) "Peripheral Chip Select Bank 2 or General Purpose I/O", C6 PerAddr4 (io) "Peripheral Address Bus", C7 PerAddr7 (io) "Peripheral Address Bus", C8 PerAddr11 (io) "Peripheral Address Bus", C9 PerAddr14 (io) "Peripheral Address Bus", C10 ~{PerCS}5[GPIO14] (io) "Peripheral Chip Select Bank 5 or General Purpose I/O", C11 ~{PerCS}7[GPIO16] (io) "Peripheral Chip Select Bank 7 or General Purpose I/O", C12 PerAddr22 (io) "Peripheral Address Bus", C13 PerAddr25 (io) "Peripheral Address Bus", C14 PerAddr28 (io) "Peripheral Address Bus", D1 ~{PerWBE}3 (io) "Peripheral Write Byte Enable", D2 ~{PerWBE}0 (io) "Peripheral Write Byte Enable", D6 ~{PerCS}0 (out) "Peripheral Chip Select Bank 0", D7 PerAddr3 (io) "Peripheral Address Bus", D8 PerAddr6 (io) "Peripheral Address Bus", D9 PerAddr10 (io) "Peripheral Address Bus", D10 PerAddr13 (io) "Peripheral Address Bus", D11 PerAddr19 (io) "Peripheral Address Bus", D12 PerAddr23 (io) "Peripheral Address Bus", D13 PerAddr26 (io) "Peripheral Address Bus", D14 PerAddr29 (io) "Peripheral Address Bus", D15 PerAddr31 (io) "Peripheral Address Bus", E1 PerPar2 (io) "Peripheral Byte Parity Signal", E2 ~{PerBLast} (io) ""Last transfer of a memory access" Indicator", E3 PerReady (in) "Peripheral Slave "ready to transfer data" Indicator", E4 ~{PerOE} (out) "Peripheral/DMA Controller Output Enable", F3 ~{PerWBE}2 (io) "Peripheral Write Byte Enable", F4 ~{PerWBE}1 (io) "Peripheral Write Byte Enable", G1 PerData29 (io) "Peripheral Data Bus", G2 PerData30 (io) "Peripheral Data Bus", G3 PerPar1 (io) "Peripheral Byte Parity Signal", H1 PerData25 (io) "Peripheral Data Bus", H2 PerData26 (io) "Peripheral Data Bus", H3 PerData31 (io) "Peripheral Data Bus", H4 PerPar3 (io) "Peripheral Byte Parity Signal", J1 PerData21 (io) "Peripheral Data Bus", J2 PerData22 (io) "Peripheral Data Bus", J3 PerData27 (io) "Peripheral Data Bus", J4 PerData28 (io) "Peripheral Data Bus", K1 PerData20 (io) "Peripheral Data Bus", K2 PerData18 (io) "Peripheral Data Bus", K3 PerData23 (io) "Peripheral Data Bus", K4 PerData24 (io) "Peripheral Data Bus", L2 PerData16 (io) "Peripheral Data Bus", L3 PerData19 (io) "Peripheral Data Bus", L4 PerData14 (io) "Peripheral Data Bus", M1 PerData17 (io) "Peripheral Data Bus", M2 PerData12 (io) "Peripheral Data Bus", M3 PerData15 (io) "Peripheral Data Bus", M4 PerData10 (io) "Peripheral Data Bus", N1 PerData13 (io) "Peripheral Data Bus", N2 PerData8 (io) "Peripheral Data Bus", N3 PerData11 (io) "Peripheral Data Bus", N4 PerData6 (io) "Peripheral Data Bus", P1 PerData9 (io) "Peripheral Data Bus", P3 PerData7 (io) "Peripheral Data Bus", R2 PerData3 (io) "Peripheral Data Bus", R3 PerData4 (io) "Peripheral Data Bus", R4 PerData1 (io) "Peripheral Data Bus", T1 PerData5 (io) "Peripheral Data Bus", U1 PerData2 (io) "Peripheral Data Bus", U2 PerData0 (io) "Peripheral Data Bus (msb)"
part C pins: A2 TDI (in) "Test data in", A8 DMAReq3 (in) "Used by slave peripherals to indicate transfer data readiness", A14 DMAAck3 (out) "Indicates data transfers have occurred", A18 SysErr (out) "Set to 1 when a Machine Check is generated", A19 DMAReq0 (in) "Used by slave peripherals to indicate transfer data readiness", B1 PerErr (in) "External slave peripheral error indicator", B3 TMS (in) "JTAG test mode select", B4 TCK (in) "JTAG test clock", B15 DMAReq2 (in) "Used by slave peripherals to indicate transfer data readiness", B16 DMAAck2 (out) "Indicates data transfers have occurred", B17 DMAAck1 (out) "Indicates data transfers have occurred", B18 GPIO1[TS1E] (io) "General Purpose I/O or Even Trace execution status", B20 TmrClk (in) "External clock input", C15 DMAReq1 (in) "Used by slave peripherals to indicate transfer data readiness", C16 DMAAck0 (out) "Indicates data transfers have occurred", C17 GPIO3[TS1O] (io) "General Purpose I/O or Odd Trace execution status", C19 DrvrInh2 (in) "Driver Inhibit 2", C20 IRQ1[GPIO18] (io) "Interrupt Request or General Purpose I/O", D3 PerClk (out) "Peripheral Clock", D5 TDO (out) "Test data out", D16 GPIO2[TS2E] (io) "General Purpose I/O or Even Trace execution status", D18 IRQ0[GPIO17] (io) "Interrupt Request or General Purpose I/O", D19 ~{SysReset} (io) "Main System Reset", D20 IRQ3[GPIO20] (io) "Interrupt Request or General Purpose I/O", E17 RcvrInh (in) "Receiver Inhibit", E18 IRQ2[GPIO19] (io) "Interrupt Request or General Purpose I/O", E19 ~{Halt} (in) "Halt from external debugger", F2 EOT1/TC1 (io) "End Of Transfer 1/Terminal Count 1", F17 DrvrInh1 (in) "Driver Inhibit 1", F18 IRQ5[GPIO22] (io) "Interrupt Request or General Purpose I/O", F19 TestEn (in) "Test Enable", G4 EOT0/TC0 (io) "End Of Transfer 0/Terminal Count 0", G17 IRQ4[GPIO21] (io) "Interrupt Request or General Purpose I/O", H17 SysClk (in) "Main System Clock input", H19 ~{TRST} (in) "JTAG reset", P2 BusReq (out) "For PPC405CR to regain control of peripheral interface from an external master", P4 ~{ExtReset} (out) "Peripheral Reset", P18 GPIO4[TS2O] (io) "General Purpose I/O or Odd Trace execution status", R18 ~{UART0_DCD} (in) "UART0 Data Carrier Detect", R19 UARTSerClk (in) "UART Serial clock", T3 HoldPri (in) "External Master Priority Indicator", T4 HoldAck (out) "Hold Acknowledge", T17 GPIO5[TS3] (io) "General Purpose I/O or Trace status", T19 UART0_Rx (in) "UART0 Receive (serial data in)", U5 ~{ExtAck} (out) "Data Transfer Cycle Indicator", U13 ~{UART0_DTR} (out) "UART0 Data Terminal Ready", U15 IICSCL (io) "IIC Serial Clock", U16 ~{UART0_DSR} (in) "UART0 Data Set Ready", V2 HoldReq (in) "Hold Request", V6 GPIO9[TrcClk] (io) "General Purpose I/O or Trace interface clock", V7 ~{UART1_DSR}[~{UART1_CTS}] (in) "UART1 Data Set Ready or UART1 Clear To Send", V15 ~{UART0_RI} (in) "UART0 Ring Indicator", V20 ~{UART0_RTS} (out) "UART0 Request To Send", W1 EOT2/TC2 (io) "End Of Transfer 2/Terminal Count 2", W5 UART1_Rx (in) "UART1 Receive (serial data in)", W6 ~{UART1_RTS}[~{UART1_DTR}] (out) "UART1 Request To Send or UART1 Data Terminal Ready", W10 ~{UART0_CTS} (in) "UART0 Clear To Send", W13 GPIO8[TS6] (io) "General Purpose I/O or Trace status", W15 UART0_Tx (out) "UART0 Transmit (serial data out)", W17 IICSDA (io) "IIC Serial Data", W18 GPIO6[TS4] (io) "General Purpose I/O or Trace status", W20 IRQ6[GPIO23] (io) "Interrupt Request or General Purpose I/O", Y2 EOT3/TC3 (io) "End Of Transfer 3/Terminal Count 3", Y3 ~{ExtReq} (in) "External Master "Data transfer preparedness" Indicator", Y5 UART1_Tx (out) "UART1 Transmit (serial data out)", Y19 GPIO7[TS5] (io) "General Purpose I/O or Trace status"
part D pins: A1 GND (power) "Ground", A6 GND (power) "Ground", A10 GND (power) "Ground", A15 GND (power) "Ground", A20 GND (power) "Ground", B2 GND (power) "Ground", B19 GND (power) "Ground", C3 GND (power) "Ground", C18 GND (power) "Ground", D4 GND (power) "Ground", D17 GND (power) "Ground", E5 GND (power) "Ground", E6 OVDD (power) "Output Driver Voltage - 3.3V", E7 OVDD (power) "Output Driver Voltage - 3.3V", E8 VDD (power) "Logic Voltage - 2.5V", E9 VDD (power) "Logic Voltage - 2.5V", E10 GND (power) "Ground", E11 GND (power) "Ground", E12 VDD (power) "Logic Voltage - 2.5V", E13 VDD (power) "Logic Voltage - 2.5V", E14 OVDD (power) "Output Driver Voltage - 3.3V", E15 OVDD (power) "Output Driver Voltage - 3.3V", E16 GND (power) "Ground", E20 AVDD (power) "Filtered voltage input for PLL circuits", F1 GND (power) "Ground", F5 OVDD (power) "Output Driver Voltage - 3.3V", F16 OVDD (power) "Output Driver Voltage - 3.3V", F20 GND (power) "Ground", G5 OVDD (power) "Output Driver Voltage - 3.3V", G16 OVDD (power) "Output Driver Voltage - 3.3V", G19 Reserved "Reserve pin. Connect to GND", H5 VDD (power) "Logic Voltage - 2.5V", H16 VDD (power) "Logic Voltage - 2.5V", J5 VDD (power) "Logic Voltage - 2.5V", J9 GND (power) "Ground. Also a thermal ball", J10 GND (power) "Ground. Also a thermal ball", J11 GND (power) "Ground. Also a thermal ball", J12 GND (power) "Ground. Also a thermal ball", J16 VDD (power) "Logic Voltage - 2.5V", J20 Reserved "Reserve pin. Not to be connected to signals, VDD or GND", K5 GND (power) "Ground", K9 GND (power) "Ground. Also a thermal ball", K10 GND (power) "Ground. Also a thermal ball", K11 GND (power) "Ground. Also a thermal ball", K12 GND (power) "Ground. Also a thermal ball", K16 GND (power) "Ground", K20 GND (power) "Ground", L1 GND (power) "Ground", L5 GND (power) "Ground", L9 GND (power) "Ground. Also a thermal ball", L10 GND (power) "Ground. Also a thermal ball", L11 GND (power) "Ground. Also a thermal ball", L12 GND (power) "Ground. Also a thermal ball", L16 GND (power) "Ground", M5 VDD (power) "Logic Voltage - 2.5V", M9 GND (power) "Ground. Also a thermal ball", M10 GND (power) "Ground. Also a thermal ball", M11 GND (power) "Ground. Also a thermal ball", M12 GND (power) "Ground. Also a thermal ball", M16 VDD (power) "Logic Voltage - 2.5V", N5 VDD (power) "Logic Voltage - 2.5V", N16 VDD (power) "Logic Voltage - 2.5V", P5 OVDD (power) "Output Driver Voltage - 3.3V", P16 OVDD (power) "Output Driver Voltage - 3.3V", R1 GND (power) "Ground", R5 OVDD (power) "Output Driver Voltage - 3.3V", R16 OVDD (power) "Output Driver Voltage - 3.3V", R17 Reserved "Reserve pin. Not to be connected to signals, VDD or GND", R20 GND (power) "Ground", T5 GND (power) "Ground", T6 OVDD (power) "Output Driver Voltage - 3.3V", T7 OVDD (power) "Output Driver Voltage - 3.3V", T8 VDD (power) "Logic Voltage - 2.5V", T9 VDD (power) "Logic Voltage - 2.5V", T10 GND (power) "Ground", T11 GND (power) "Ground", T12 VDD (power) "Logic Voltage - 2.5V", T13 VDD (power) "Logic Voltage - 2.5V", T14 OVDD (power) "Output Driver Voltage - 3.3V", T15 OVDD (power) "Output Driver Voltage - 3.3V", T16 GND (power) "Ground", T20 Reserved "Reserve pin. Not to be connected to signals, VDD or GND", U4 GND (power) "Ground", U17 GND (power) "Ground", V3 GND (power) "Ground", V16 Reserved "Reserve pin. Not to be connected to signals, VDD or GND", V18 GND (power) "Ground", W2 GND (power) "Ground", W19 GND (power) "Ground", Y1 GND (power) "Ground", Y6 GND (power) "Ground", Y11 GND (power) "Ground", Y15 GND (power) "Ground", Y20 GND (power) "Ground"

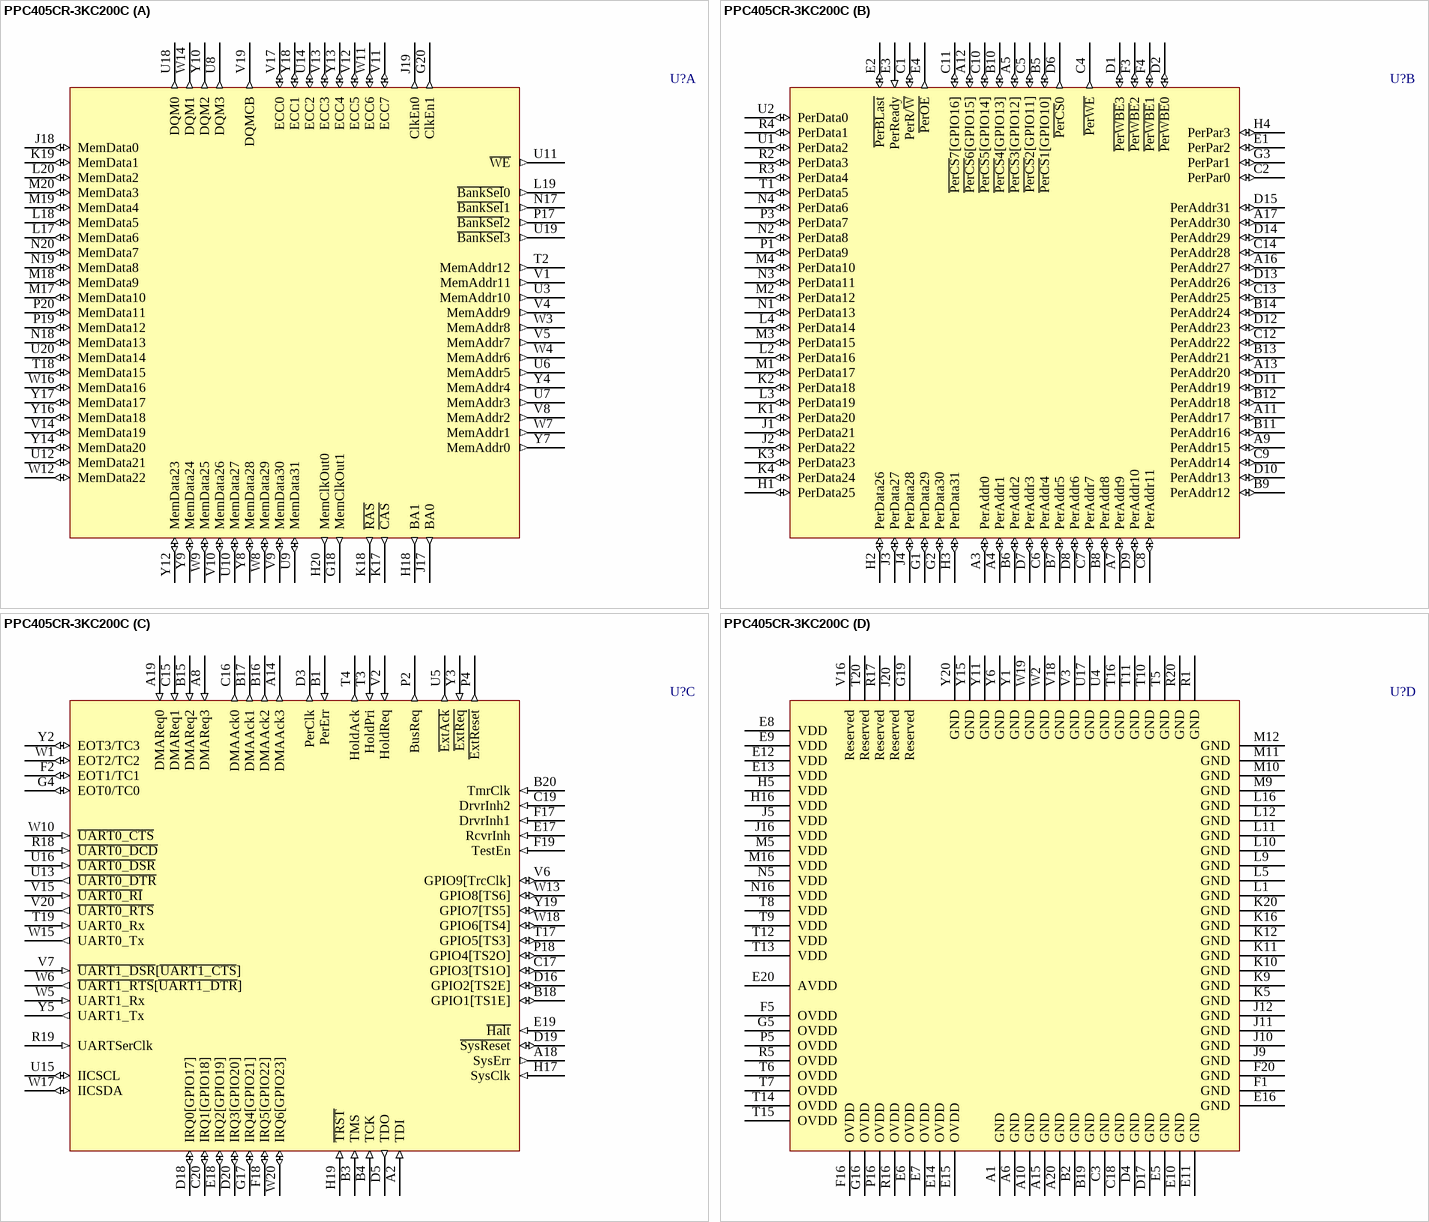
[diagram p15: symbol PPC405CR-3KC200C]